# Altium schematic symbol library DYBoard_Feeder_V2.SchLib: 1 symbol
Pins are listed as number, name and electrical type; pins without a type are passive.

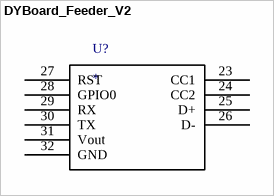
[diagram p0: symbol DYBoard_Feeder_V2]

## DYBoard_Feeder_V2
designator U?
footprint DYBoard_Feeder_V2
pins: 23 CC1, 24 CC2, 25 D+, 26 D-, 27 RST, 28 GPIO0, 29 RX, 30 TX, 31 Vout, 32 GND